# Altium footprint library SG__PCB_SOT.PcbLib: 28 footprints (part 2 of 2)
Each footprint in its own frame and in the unit in brackets; x right, y up, seen from the top. Pads: shape width x height; smd on the part's side, far side on the other; paste and mask are expansions set on the pad; w line width, h text height; cw(c..) or ccw(c..) is an arc to the next point about the centre after c.
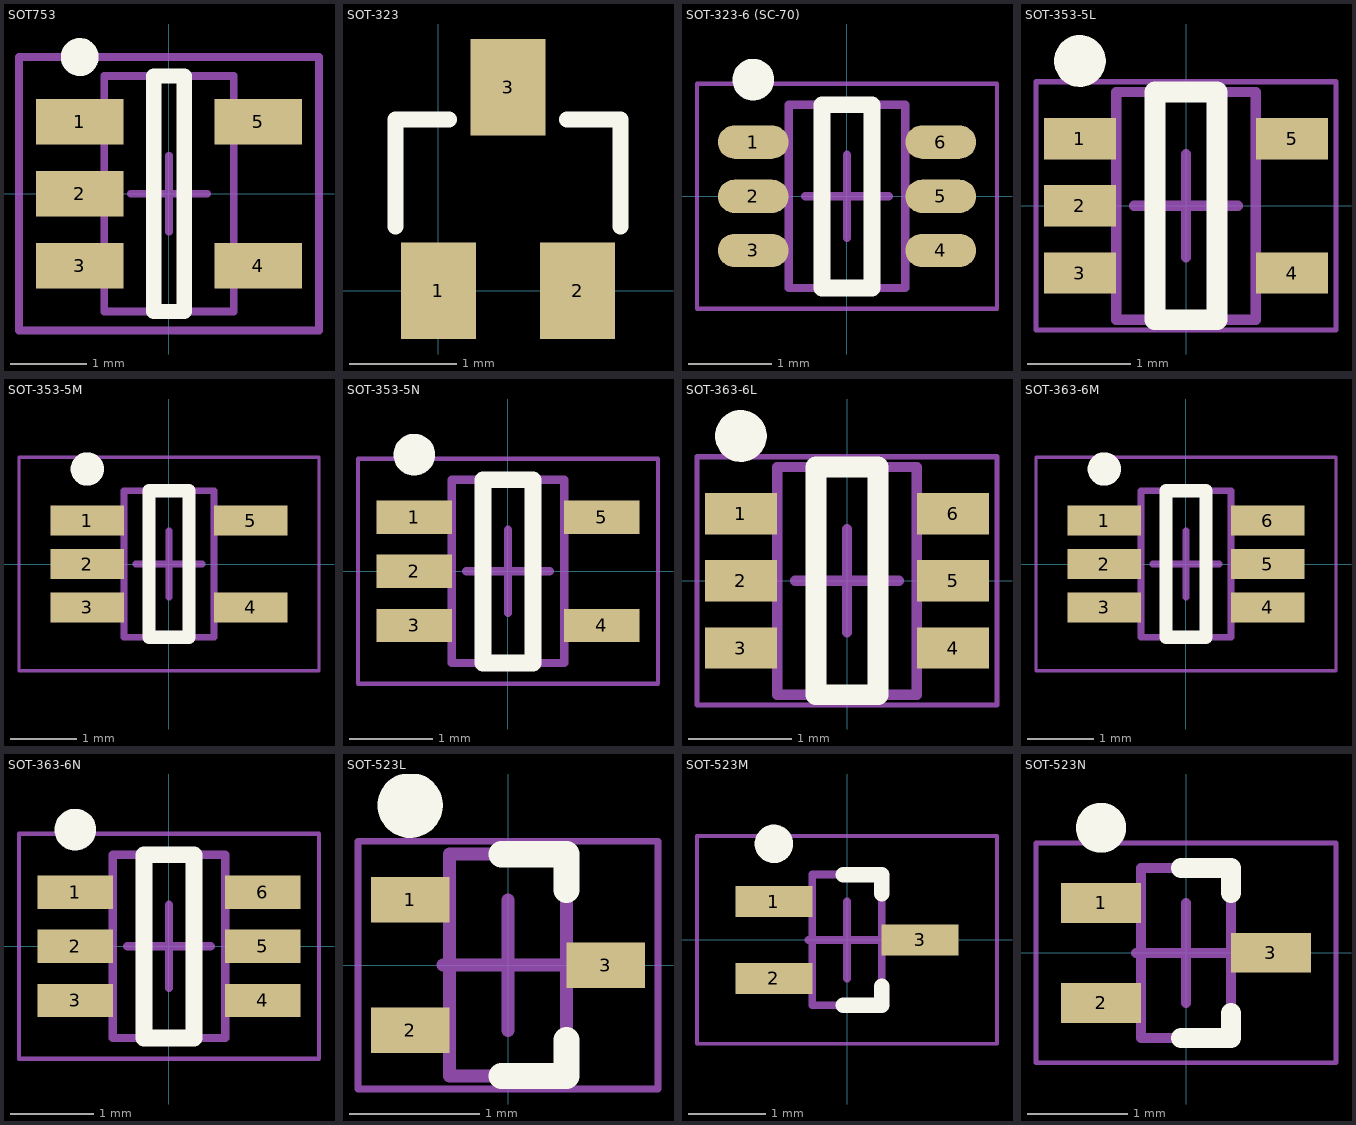
[diagram p1: the footprints below, top view; thin cyan lines are the x and y axes]

## SOT753 [mm] "SOT23, 5-Leads, Body 3,1x3,0mm (max), Pitch 0,95mm, IPC Medium Density"
height 1.1
pads (5):
  rect 1.15x0.6 smd: 1(-1.175,0.95) 2(-1.175,0) 3(-1.175,-0.95) 4(1.175,-0.95) 5(1.175,0.95)
Top Overlay:
  circle w0.25: c-1.175,1.8 r0.125
  lines w0.2: -0.2,-1.55 -0.2,1.55 0.2,1.55 0.2,-1.55 -0.2,-1.55
Mechanical 13:
  lines w0.1: -0.85,-1.55 0.85,-1.55 0.85,1.55 -0.85,1.55 -0.85,-1.55
Mechanical 15:
  lines w0.1: -0.5,0 0.5,0 ; 0,-0.5 0,0.5 ; -1.975,-1.8 1.975,-1.8 1.975,1.8 -1.975,1.8 -1.975,-1.8
3D body: height 1.1, standoff 0.05, extent -0.85,-1.55 0.85,1.55

## SOT-323 [mm]
pads (3):
  rect 0.7x0.9 smd mask+0.05: 1(0,0) 2(1.3,0) 3(0.65,1.9)
Top Overlay:
  lines w0.15: -0.4,0.6 -0.4,1.6 0.1,1.6 ; 1.2,1.6 1.7,1.6 1.7,0.6
3D body "SOT-323.stp": height 0.9, standoff -0.05, extent -0.365,-0.11 1.635,1.99

## SOT-323-6 (SC-70) [mm] "TSOP, 6-Leads, Body 2.00x1.25mm, Pitch 0.65mm, IPC Medium Density"
height 1.1
pads (6):
  oval 0.85x0.4 smd: 1(-1.125,0.65) 2(-1.125,0) 3(-1.125,-0.65) 4(1.125,-0.65) 5(1.125,0) 6(1.125,0.65)
Top Overlay:
  circle w0.25: c-1.125,1.4 r0.125
  lines w0.2: -0.3,-1.1 -0.3,1.1 0.3,1.1 0.3,-1.1 -0.3,-1.1
Assembly Top:
  lines w0.1: -0.7,-1.1 -0.7,1.1 0.7,1.1 0.7,-1.1 -0.7,-1.1
Courtyard Top:
  lines w0.05: -1.8,-1.35 -1.8,1.35 1.8,1.35 1.8,-1.35 -1.8,-1.35
  lines w0.1: -0.5,0 0.5,0 ; 0,-0.5 0,0.5
3D body "SC70-6.step": height 0.92, standoff -0.03, extent -1.05,-0.975 1.05,1.025

## SOT-353-5L [mm] "SOT23, 5-Leads, Body 2,00x2,10mm, Pitch 0,65mm, IPC High Density"
height 1.1
pads (5):
  rect 0.7x0.4 smd: 1(-1.025,0.65) 2(-1.025,0) 3(-1.025,-0.65) 4(1.025,-0.65) 5(1.025,0.65)
Top Overlay:
  circle w0.25: c-1.025,1.4 r0.125
  lines w0.2: -0.3,-1.1 -0.3,1.1 0.3,1.1 0.3,-1.1 -0.3,-1.1
Assembly Top:
  lines w0.1: -0.675,-1.1 0.675,-1.1 0.675,1.1 -0.675,1.1 -0.675,-1.1
Courtyard Top:
  lines w0.05: -1.45,-1.2 1.45,-1.2 1.45,1.2 -1.45,1.2 -1.45,-1.2
  lines w0.1: -0.5,0 0.5,0 ; 0,-0.5 0,0.5
3D body "SOT65P210X110-5L.step": height 1.1, standoff 0, extent -1.2,-1.1 1.2,1.1

## SOT-353-5M [mm] "SOT23, 5-Leads, Body 2,00x2,10mm, Pitch 0,65mm, IPC Low Density"
height 1.1
pads (5):
  rect 1.1x0.45 smd: 1(-1.225,0.65) 2(-1.225,0) 3(-1.225,-0.65) 4(1.225,-0.65) 5(1.225,0.65)
Top Overlay:
  circle w0.25: c-1.225,1.425 r0.125
  lines w0.2: -0.3,-1.1 0.3,-1.1 0.3,1.1 -0.3,1.1 -0.3,-1.1
Assembly Top:
  lines w0.1: -0.675,-1.1 -0.675,1.1 0.675,1.1 0.675,-1.1 -0.675,-1.1
Courtyard Top:
  lines w0.05: -2.25,-1.6 -2.25,1.6 2.25,1.6 2.25,-1.6 -2.25,-1.6
  lines w0.1: -0.5,0 0.5,0 ; 0,-0.5 0,0.5
3D body "SOT65P210X110-5M.step": height 1.1, standoff 0, extent -1.2,-1.1 1.2,1.1

## SOT-353-5N [mm] "SOT23, 5-Leads, Body 2,00x2,10mm, Pitch 0,65mm, IPC Medium Density"
height 1.1
pads (5):
  rect 0.9x0.4 smd: 1(-1.125,0.65) 2(-1.125,0) 3(-1.125,-0.65) 4(1.125,-0.65) 5(1.125,0.65)
Top Overlay:
  circle w0.25: c-1.125,1.4 r0.125
  lines w0.2: -0.3,-1.1 -0.3,1.1 0.3,1.1 0.3,-1.1 -0.3,-1.1
Assembly Top:
  lines w0.1: -0.675,-1.1 0.675,-1.1 0.675,1.1 -0.675,1.1 -0.675,-1.1
Courtyard Top:
  lines w0.05: -1.8,-1.35 1.8,-1.35 1.8,1.35 -1.8,1.35 -1.8,-1.35
  lines w0.1: -0.5,0 0.5,0 ; 0,-0.5 0,0.5
3D body "SOT65P210X110-5N.step": height 1.1, standoff 0, extent -1.2,-1.1 1.2,1.1

## SOT-363-6L [mm] "SOT23, 6-Leads, Body 2,00x2,10mm, Pitch 0,65mm, IPC High Density"
height 1.1
pads (6):
  rect 0.7x0.4 smd: 1(-1.025,0.65) 2(-1.025,0) 3(-1.025,-0.65) 4(1.025,-0.65) 5(1.025,0) 6(1.025,0.65)
Top Overlay:
  circle w0.25: c-1.025,1.4 r0.125
  lines w0.2: -0.3,-1.1 0.3,-1.1 0.3,1.1 -0.3,1.1 -0.3,-1.1
Assembly Top:
  lines w0.1: -0.675,-1.1 -0.675,1.1 0.675,1.1 0.675,-1.1 -0.675,-1.1
Courtyard Top:
  lines w0.05: -1.45,-1.2 -1.45,1.2 1.45,1.2 1.45,-1.2 -1.45,-1.2
  lines w0.1: -0.5,0 0.5,0 ; 0,-0.5 0,0.5
3D body "SOT65P210X110-6L.step": height 1.1, standoff 0, extent -1.2,-1.1 1.2,1.1

## SOT-363-6M [mm] "SOT23, 6-Leads, Body 2,00x2,10mm, Pitch 0,65mm, IPC Low Density"
height 1.1
pads (6):
  rect 1.1x0.45 smd: 1(-1.225,0.65) 2(-1.225,0) 3(-1.225,-0.65) 4(1.225,-0.65) 5(1.225,0) 6(1.225,0.65)
Top Overlay:
  circle w0.25: c-1.225,1.425 r0.125
  lines w0.2: -0.3,-1.1 0.3,-1.1 0.3,1.1 -0.3,1.1 -0.3,-1.1
Assembly Top:
  lines w0.1: -0.675,-1.1 -0.675,1.1 0.675,1.1 0.675,-1.1 -0.675,-1.1
Courtyard Top:
  lines w0.05: -2.25,-1.6 -2.25,1.6 2.25,1.6 2.25,-1.6 -2.25,-1.6
  lines w0.1: -0.5,0 0.5,0 ; 0,-0.5 0,0.5
3D body "SOT65P210X110-6M.step": height 1.1, standoff 0, extent -1.2,-1.1 1.2,1.1

## SOT-363-6N [mm] "SOT23, 6-Leads, Body 2,00x2,10mm, Pitch 0,65mm, IPC Medium Density"
height 1.1
pads (6):
  rect 0.9x0.4 smd: 1(-1.125,0.65) 2(-1.125,0) 3(-1.125,-0.65) 4(1.125,-0.65) 5(1.125,0) 6(1.125,0.65)
Top Overlay:
  circle w0.25: c-1.125,1.4 r0.125
  lines w0.2: -0.3,-1.1 0.3,-1.1 0.3,1.1 -0.3,1.1 -0.3,-1.1
Assembly Top:
  lines w0.1: -0.675,-1.1 -0.675,1.1 0.675,1.1 0.675,-1.1 -0.675,-1.1
Courtyard Top:
  lines w0.05: -1.8,-1.35 -1.8,1.35 1.8,1.35 1.8,-1.35 -1.8,-1.35
  lines w0.1: -0.5,0 0.5,0 ; 0,-0.5 0,0.5
3D body "SOT65P210X110-6N.step": height 1.1, standoff 0, extent -1.2,-1.1 1.2,1.1

## SOT-523L [mm] "SOT23, 3-Leads, Body 1,60x1,60mm, Pitch 0,50mm, IPC High Density"
height 0.9
pads (3):
  rect 0.6x0.35 smd: 1(-0.75,0.5) 2(-0.75,-0.5) 3(0.75,0)
Top Overlay:
  circle w0.25: c-0.75,1.225 r0.125
  lines w0.2: -0.05,-0.85 0.45,-0.85 0.45,-0.575 ; -0.05,0.85 0.45,0.85 0.45,0.575
Assembly Top:
  lines w0.1: -0.45,-0.85 -0.45,0.85 0.45,0.85 0.45,-0.85 -0.45,-0.85
Courtyard Top:
  lines w0.05: -1.15,-0.95 -1.15,0.95 1.15,0.95 1.15,-0.95 -1.15,-0.95
  lines w0.1: -0.5,0 0.5,0 ; 0,-0.5 0,0.5
3D body "SOT50P160X90-3L.step": height 0.9, standoff 0, extent -0.975,-0.85 0.975,0.85

## SOT-523M [mm] "SOT23, 3-Leads, Body 1,60x1,60mm, Pitch 0,50mm, IPC Low Density"
height 0.9
pads (3):
  rect 1x0.4 smd: 1(-0.95,0.5) 2(-0.95,-0.5) 3(0.95,0)
Top Overlay:
  circle w0.25: c-0.95,1.25 r0.125
  lines w0.2: -0.05,-0.85 0.45,-0.85 0.45,-0.6 ; -0.05,0.85 0.45,0.85 0.45,0.6
Assembly Top:
  lines w0.1: -0.45,-0.85 -0.45,0.85 0.45,0.85 0.45,-0.85 -0.45,-0.85
Courtyard Top:
  lines w0.05: -1.95,-1.35 -1.95,1.35 1.95,1.35 1.95,-1.35 -1.95,-1.35
  lines w0.1: -0.5,0 0.5,0 ; 0,-0.5 0,0.5
3D body "SOT50P160X90-3M.step": height 0.9, standoff 0, extent -0.975,-0.85 0.975,0.85

## SOT-523N [mm] "SOT23, 3-Leads, Body 1,60x1,60mm, Pitch 0,50mm, IPC Medium Density"
height 0.9
pads (3):
  rect 0.8x0.4 smd: 1(-0.85,0.5) 2(-0.85,-0.5) 3(0.85,0)
Top Overlay:
  circle w0.25: c-0.85,1.25 r0.125
  lines w0.2: -0.05,-0.85 0.45,-0.85 0.45,-0.6 ; -0.05,0.85 0.45,0.85 0.45,0.6
Assembly Top:
  lines w0.1: -0.45,-0.85 0.45,-0.85 0.45,0.85 -0.45,0.85 -0.45,-0.85
Courtyard Top:
  lines w0.05: -1.5,-1.1 1.5,-1.1 1.5,1.1 -1.5,1.1 -1.5,-1.1
  lines w0.1: -0.5,0 0.5,0 ; 0,-0.5 0,0.5
3D body "SOT50P160X90-3N.step": height 0.9, standoff 0, extent -0.975,-0.85 0.975,0.85